# EAGLE library part K1-5202UA-03 (library Eagle CMR)
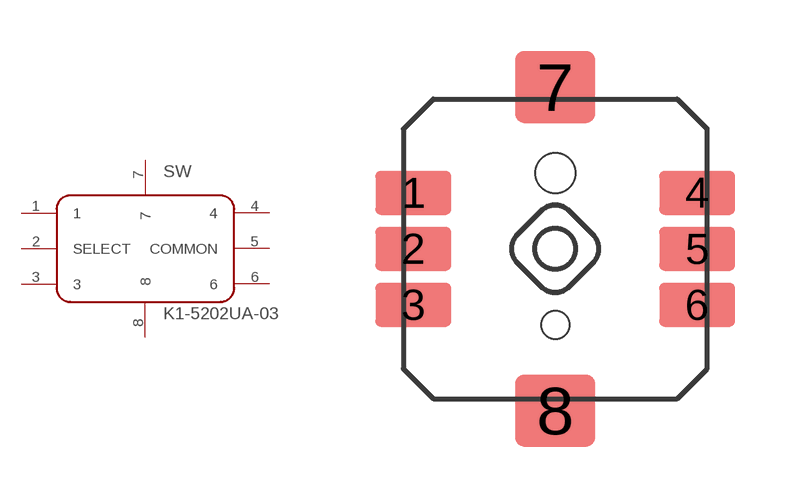
[diagram p7: symbol with the pads of K1-5202UA-03; footprint K1-5202UA-03]

Designator prefix SW

## K1-5202UA-03  [K1-5202UA-03]
1  1
2  SELECT
3  3
4  4
5  COMMON
6  6
7  7
8  8

## Footprint K1-5202UA-03 (pad centres in mm)
smd 1.9 x 1.1: 1 -3.55,1.4; 2 -3.55,0; 3 -3.55,-1.4; 4 3.55,1.4; 5 3.55,0; 6 3.55,-1.4
smd 2 x 1.8: 7 0,4.05; 8 0,-4.05
hole 1 at 0,1.9
hole 0.7 at 0,-1.9